# Altium integrated library plxtech.IntLib: 4 symbols
Pins are listed as number, name and electrical type; pins without a type are passive.

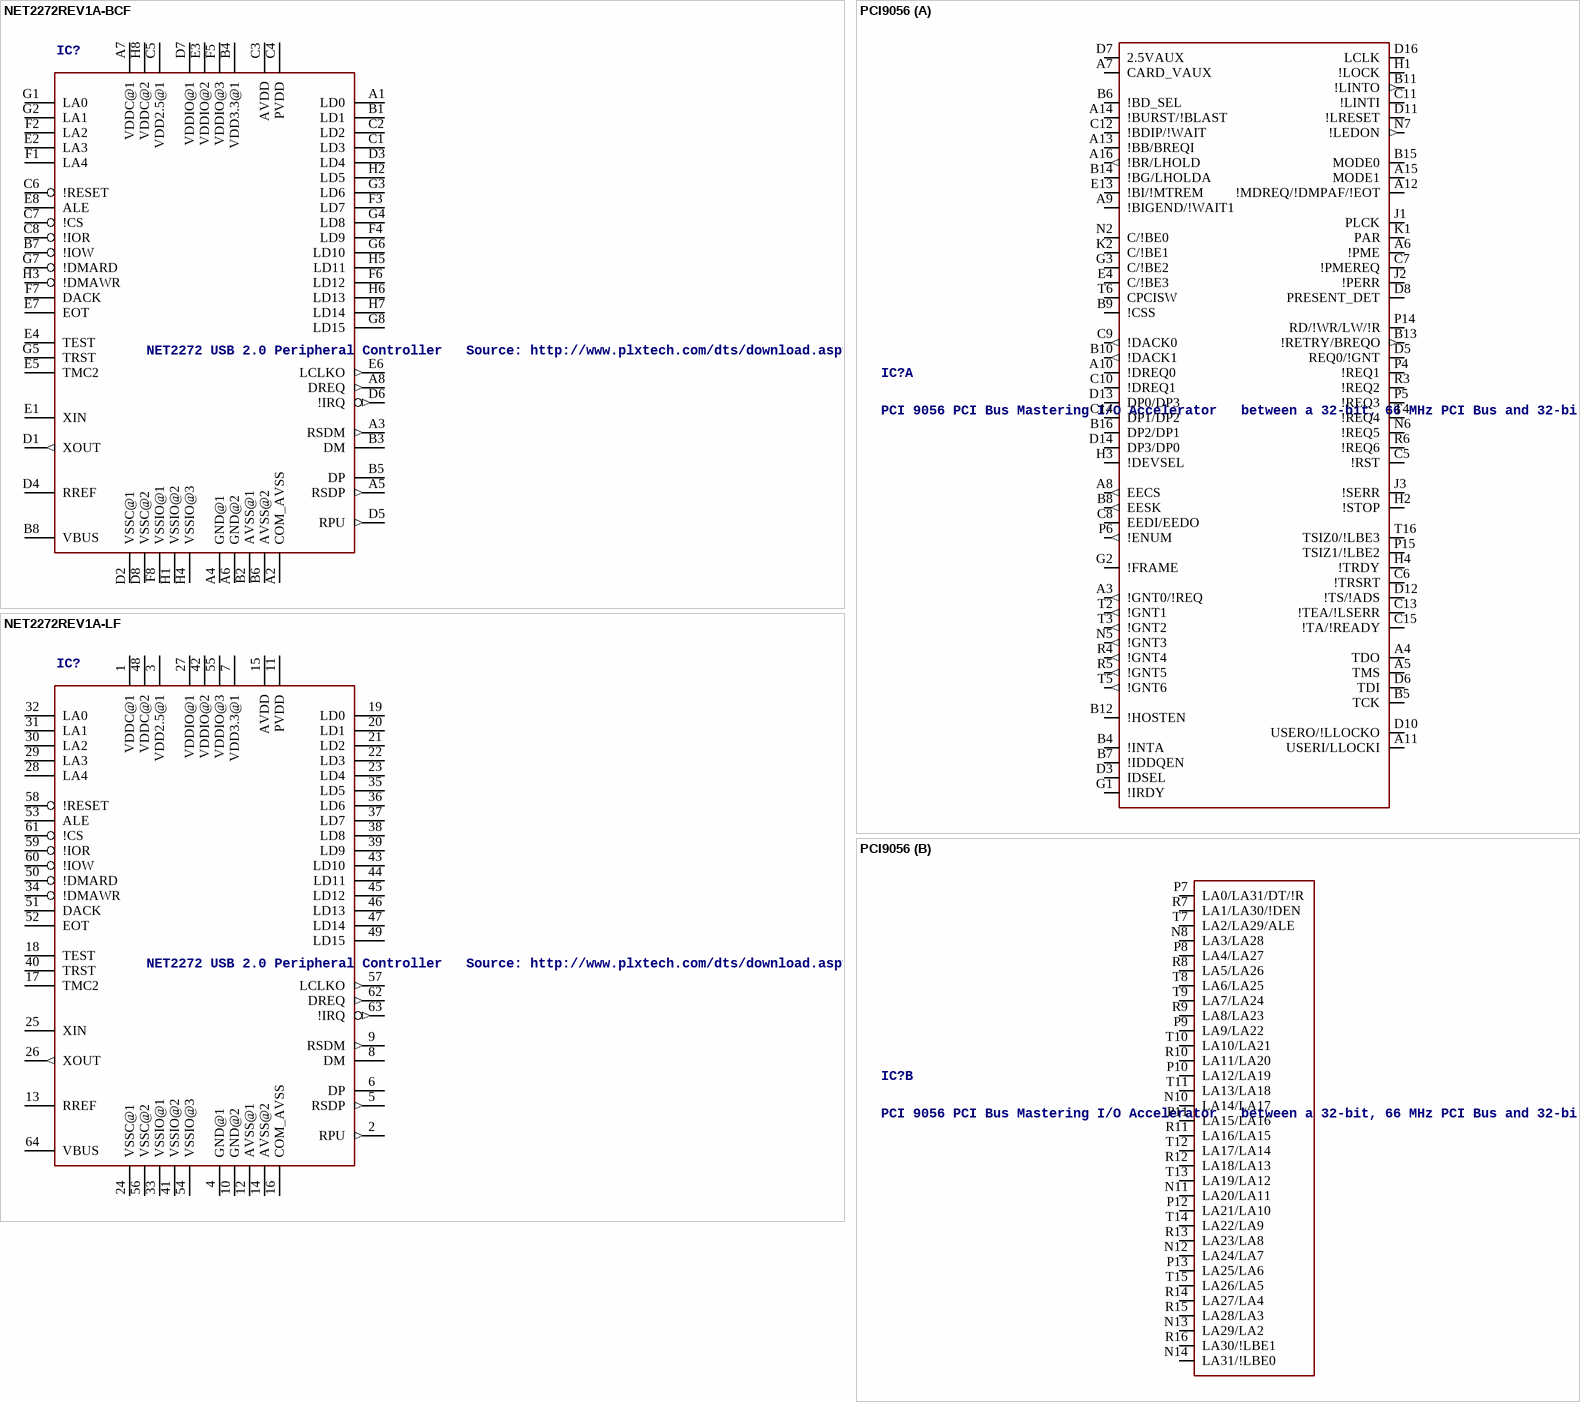
[diagram p0: symbols NET2272REV1A-BCF to PCI9056]

## NET2272REV1A-BCF
designator IC?, comment NET2272 USB 2.0 Peripheral Controller   Source: http://www.plxtech.com/dts/download.asp?f=NET2000/2272/Net2272.spec.re040615.pdf FBGA-Type: http://www1.plxtech.com/TEMP/77131/NET2272r1A_data_book_v1.92_31Oct05.pdf
OC_FARNELL: unknown; OC_NEWARK: unknown
footprint FBGA64
pins: A1 LD0, A2 COM_AVSS (power), A3 RSDM (out), A4 GND@1 (power), A5 RSDP (out), A6 GND@2 (power), A7 VDDC@1 (power), A8 DREQ (out), B1 LD1, B2 AVSS@1 (power), B3 DM, B4 VDD3.3@1 (power), B5 DP, B6 AVSS@2 (power), B7 !IOW, B8 VBUS, C1 LD3, C2 LD2, C3 AVDD (power), C4 PVDD (power), C5 VDD2.5@1 (power), C6 !RESET, C7 !CS, C8 !IOR, D1 XOUT (out), D2 VSSC@1 (power), D3 LD4, D4 RREF, D5 RPU (out), D6 !IRQ (out), D7 VDDIO@1 (power), D8 VSSC@2 (power), E1 XIN, E2 LA3, E3 VDDIO@2 (power), E4 TEST, E5 TMC2, E6 LCLKO (out), E7 EOT, E8 ALE, F1 LA4, F2 LA2, F3 LD7, F4 LD9, F5 VDDIO@3 (power), F6 LD12, F7 DACK, F8 VSSIO@1 (power), G1 LA0, G2 LA1, G3 LD6, G4 LD8, G5 TRST, G6 LD10, G7 !DMARD, G8 LD15, H1 VSSIO@2 (power), H2 LD5, H3 !DMAWR, H4 VSSIO@3 (power), H5 LD11, H6 LD13, H7 LD14, H8 VDDC@2 (power)

## NET2272REV1A-LF
designator IC?, comment NET2272 USB 2.0 Peripheral Controller   Source: http://www.plxtech.com/dts/download.asp?f=NET2000/2272/Net2272.spec.re040615.pdf FBGA-Type: http://www1.plxtech.com/TEMP/77131/NET2272r1A_data_book_v1.92_31Oct05.pdf
MPN: NET2272REV1A-LF; OC_FARNELL: 1623121; OC_NEWARK: 08P1483
footprint TQFP64
pins: 1 VDDC@1 (power), 2 RPU (out), 3 VDD2.5@1 (power), 4 GND@1 (power), 5 RSDP (out), 6 DP, 7 VDD3.3@1 (power), 8 DM, 9 RSDM (out), 10 GND@2 (power), 11 PVDD (power), 12 AVSS@1 (power), 13 RREF, 14 AVSS@2 (power), 15 AVDD (power), 16 COM_AVSS (power), 17 TMC2, 18 TEST, 19 LD0, 20 LD1, 21 LD2, 22 LD3, 23 LD4, 24 VSSC@1 (power), 25 XIN, 26 XOUT (out), 27 VDDIO@1 (power), 28 LA4, 29 LA3, 30 LA2, 31 LA1, 32 LA0, 33 VSSIO@1 (power), 34 !DMAWR, 35 LD5, 36 LD6, 37 LD7, 38 LD8, 39 LD9, 40 TRST, 41 VSSIO@2 (power), 42 VDDIO@2 (power), 43 LD10, 44 LD11, 45 LD12, 46 LD13, 47 LD14, 48 VDDC@2 (power), 49 LD15, 50 !DMARD, 51 DACK, 52 EOT, 53 ALE, 54 VSSIO@3 (power), 55 VDDIO@3 (power), 56 VSSC@2 (power), 57 LCLKO (out), 58 !RESET, 59 !IOR, 60 !IOW, 61 !CS, 62 DREQ (out), 63 !IRQ (out), 64 VBUS

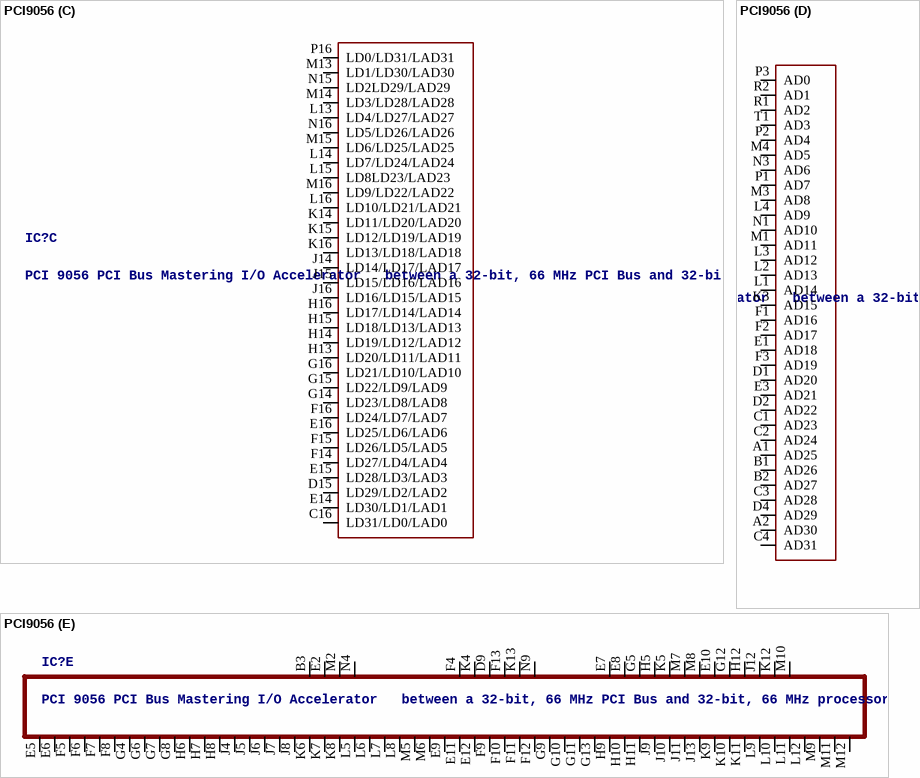
[diagram p1: symbol PCI9056]

## PCI9056
designator IC?, comment PCI 9056 PCI Bus Mastering I/O Accelerator   between a 32-bit, 66 MHz PCI Bus and 32-bit, 66 MHz processor Local Bus Data Book Version 0.91b February 2002 Website: http://www.plxtech.com
OC_FARNELL: 1623124; OC_NEWARK: unknown
footprint PBGA256
part A pins: A3 !GNT0/!REQ (out), A4 TDO, A5 TMS, A6 !PME, A7 CARD_VAUX (power), A8 EECS (out), A9 !BIGEND/!WAIT1, A10 !DREQ0, A11 USERI/LLOCKI, A12 !MDREQ/!DMPAF/!EOT, A13 !BB/BREQI, A14 !BURST/!BLAST, A15 MODE1, A16 !BR/LHOLD (out), B4 !INTA, B5 TCK, B6 !BD_SEL, B7 !IDDQEN, B8 EESK (out), B9 !CSS, B10 !DACK1 (out), B11 !LINTO (out), B12 !HOSTEN, B13 !RETRY/BREQO (out), B14 !BG/LHOLDA, B15 MODE0, B16 DP2/DP1, C5 !RST, C6 !TRSRT, C7 !PMEREQ, C8 EEDI/EEDO, C9 !DACK0 (out), C10 !DREQ1, C11 !LINTI, C12 !BDIP/!WAIT, C13 !TEA/!LSERR, C14 DP1/DP2, C15 !TA/!READY, D3 IDSEL, D5 REQ0/!GNT, D6 TDI, D7 2.5VAUX (power), D8 PRESENT_DET, D10 USERO/!LLOCKO, D11 !LRESET, D12 !TS/!ADS, D13 DP0/DP3, D14 DP3/DP0, D16 LCLK, E4 C/!BE3, E13 !BI/!MTREM, G1 !IRDY, G2 !FRAME, G3 C/!BE2, H1 !LOCK, H2 !STOP, H3 !DEVSEL, H4 !TRDY, J1 PLCK, J2 !PERR, J3 !SERR, K1 PAR, K2 C/!BE1, N2 C/!BE0, N5 !GNT3 (out), N6 !REQ5, N7 !LEDON (out), P4 !REQ1, P5 !REQ3, P6 !ENUM (out), P14 RD/!WR/LW/!R, P15 TSIZ1/!LBE2, R3 !REQ2, R4 !GNT4 (out), R5 !GNT5 (out), R6 !REQ6, T2 !GNT1 (out), T3 !GNT2 (out), T4 !REQ4, T5 !GNT6 (out), T6 CPCISW, T16 TSIZ0/!LBE3
part B pins: N8 LA3/LA28, N10 LA14/LA17, N11 LA20/LA11, N12 LA24/LA7, N13 LA29/LA2, N14 LA31/!LBE0, P7 LA0/LA31/DT/!R, P8 LA4/LA27, P9 LA9/LA22, P10 LA12/LA19, P11 LA15/LA16, P12 LA21/LA10, P13 LA25/LA6, R7 LA1/LA30/!DEN, R8 LA5/LA26, R9 LA8/LA23, R10 LA11/LA20, R11 LA16/LA15, R12 LA18/LA13, R13 LA23/LA8, R14 LA27/LA4, R15 LA28/LA3, R16 LA30/!LBE1, T7 LA2/LA29/ALE, T8 LA6/LA25, T9 LA7/LA24, T10 LA10/LA21, T11 LA13/LA18, T12 LA17/LA14, T13 LA19/LA12, T14 LA22/LA9, T15 LA26/LA5
part C pins: C16 LD31/LD0/LAD0, D15 LD29/LD2/LAD2, E14 LD30/LD1/LAD1, E15 LD28/LD3/LAD3, E16 LD25/LD6/LAD6, F14 LD27/LD4/LAD4, F15 LD26/LD5/LAD5, F16 LD24/LD7/LAD7, G14 LD23/LD8/LAD8, G15 LD22/LD9/LAD9, G16 LD21/LD10/LAD10, H13 LD20/LD11/LAD11, H14 LD19/LD12/LAD12, H15 LD18/LD13/LAD13, H16 LD17/LD14/LAD14, J14 LD14/LD17/LAD17, J15 LD15/LD16/LAD16, J16 LD16/LD15/LAD15, K14 LD11/LD20/LAD20, K15 LD12/LD19/LAD19, K16 LD13/LD18/LAD18, L13 LD4/LD27/LAD27, L14 LD7/LD24/LAD24, L15 LD8LD23/LAD23, L16 LD10/LD21/LAD21, M13 LD1/LD30/LAD30, M14 LD3/LD28/LAD28, M15 LD6/LD25/LAD25, M16 LD9/LD22/LAD22, N15 LD2LD29/LAD29, N16 LD5/LD26/LAD26, P16 LD0/LD31/LAD31
part D pins: A1 AD25, A2 AD30, B1 AD26, B2 AD27, C1 AD23, C2 AD24, C3 AD28, C4 AD31, D1 AD20, D2 AD22, D4 AD29, E1 AD18, E3 AD21, F1 AD16, F2 AD17, F3 AD19, K3 AD15, L1 AD14, L2 AD13, L3 AD12, L4 AD9, M1 AD11, M3 AD8, M4 AD5, N1 AD10, N3 AD6, P1 AD7, P2 AD4, P3 AD0, R1 AD2, R2 AD1, T1 AD3
part E pins: B3 VIO@1 (power), D9 VCORE@3 (power), E2 VIO@2 (power), E5 VSS@1 (power), E6 VSS@2 (power), E7 VRING@1 (power), E8 VRING@2 (power), E9 VSS@28 (power), E10 VRING@8 (power), E11 VSS@29 (power), E12 VSS@30 (power), F4 VCORE@1 (power), F5 VSS@3 (power), F6 VSS@4 (power), F7 VSS@5 (power), F8 VSS@6 (power), F9 VSS@31 (power), F10 VSS@32 (power), F11 VSS@33 (power), F12 VSS@34 (power), F13 VCORE@4 (power), G4 VSS@7 (power), G5 VRING@3 (power), G6 VSS@8 (power), G7 VSS@9 (power), G8 VSS@10 (power), G9 VSS@35 (power), G10 VSS@36 (power), G11 VSS@37 (power), G12 VRING@9 (power), G13 VSS@38 (power), H5 VRING@4 (power), H6 VSS@11 (power), H7 VSS@12 (power), H8 VSS@13 (power), H9 VSS@39 (power), H10 VSS@40 (power), H11 VSS@41 (power), H12 VRING@10 (power), J4 VSS@14 (power), J5 VSS@15 (power), J6 VSS@16 (power), J7 VSS@17 (power), J8 VSS@18 (power), J9 VSS@42 (power), J10 VSS@43 (power), J11 VSS@44 (power), J12 VRING@11 (power), J13 VSS@45 (power), K4 VCORE@2 (power), K5 VRING@5 (power), K6 VSS@19 (power), K7 VSS@20 (power), K8 VSS@21 (power), K9 VSS@46 (power), K10 VSS@47 (power), K11 VSS@48 (power), K12 VRING@12 (power), K13 VCORE@5 (power), L5 VSS@22 (power), L6 VSS@23 (power), L7 VSS@24 (power), L8 VSS@25 (power), L9 VSS@49 (power), L10 VSS@50 (power), L11 VSS@51 (power), L12 VSS@52 (power), M2 VIO@3 (power), M5 VSS@26 (power), M6 VSS@27 (power), M7 VRING@6 (power), M8 VRING@7 (power), M9 VSS@53 (power), M10 VRING@13 (power), M11 VSS@54 (power), M12 VSS@55 (power), N4 VIO@4 (power), N9 VCORE@6 (power)

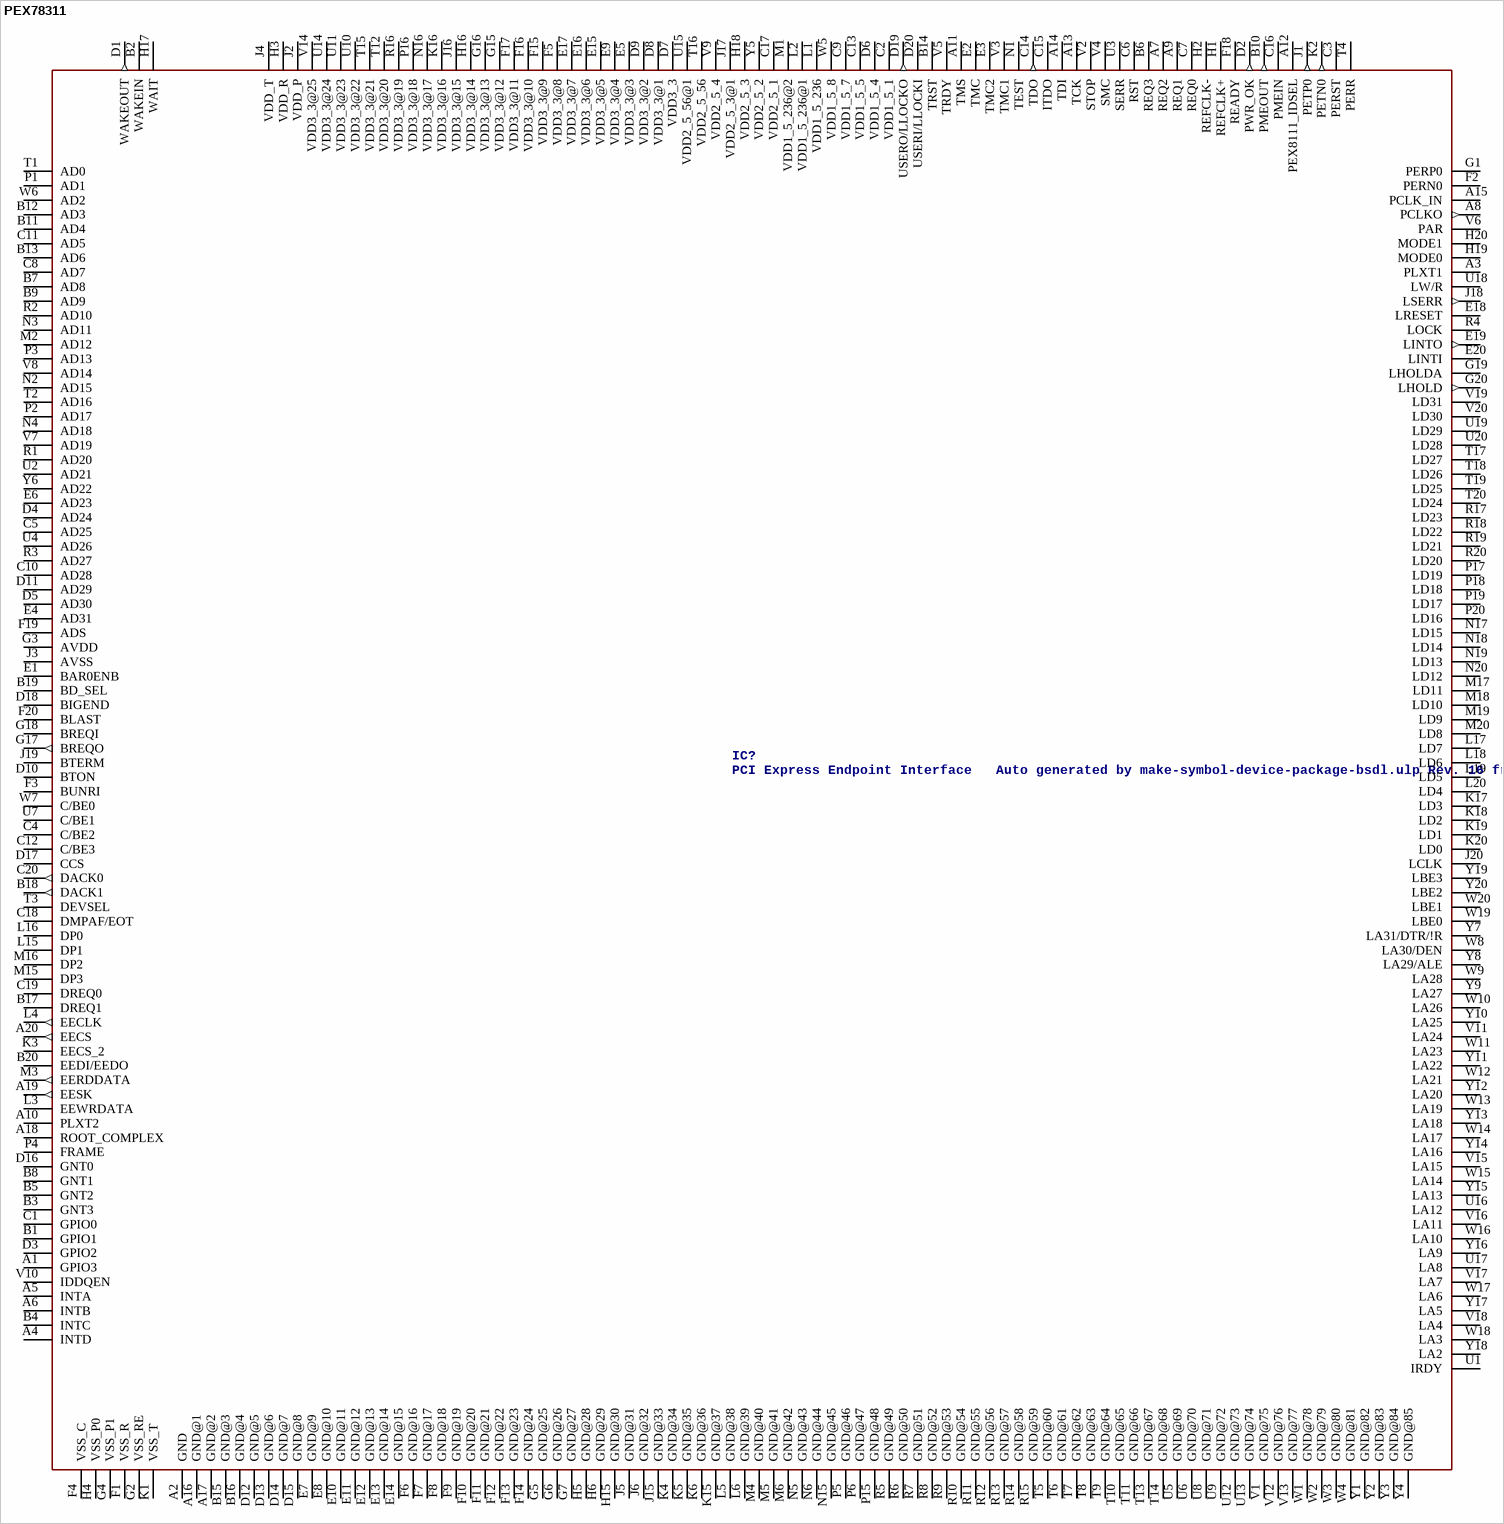
[diagram p2: symbol PEX78311]

## PEX78311
designator IC?, comment PCI Express Endpoint Interface   Auto generated by make-symbol-device-package-bsdl.ulp Rev. 16 from PEX8311_BSDL_netlist_r1.0.dat and manuell corrected Source: PEX_8311AA_Data_Book_v0.90_10Apr06.pdf
OC_FARNELL: unknown; OC_NEWARK: unknown
footprint PBGA337
pins: A1 GPIO3, A2 GND (power), A3 PLXT1, A4 INTD, A5 INTA, A6 INTB, A7 REQ2, A8 PCLKO (out), A9 REQ1, A10 PLXT2, A11 TMS, A12 PEX8111_IDSEL, A13 TCK, A14 TDI, A15 PCLK_IN, A16 GND@1 (power), A17 GND@2 (power), A18 ROOT_COMPLEX, A19 EESK (out), A20 EECS (out), B1 GPIO1, B2 WAKEIN, B3 GNT3, B4 INTC, B5 GNT2, B6 REQ3, B7 AD8, B8 GNT1, B9 AD9, B10 PMEOUT (out), B11 AD4, B12 AD3, B13 AD6, B14 TRST, B15 GND@3 (power), B16 GND@4 (power), B17 DREQ1, B18 DACK1 (out), B19 BD_SEL, B20 EEDI/EEDO, C1 GPIO0, C2 VDD1_5_1 (power), C3 PERST, C4 C/BE2, C5 AD25, C6 RST, C7 REQ0, C8 AD7, C9 VDD1_5_7 (power), C10 AD28, C11 AD5, C12 C/BE3, C13 VDD1_5_5 (power), C14 TDO (out), C15 ITDO, C16 PMEIN, C17 VDD2_5_1 (power), C18 DMPAF/EOT, C19 DREQ0, C20 DACK0 (out), D1 WAKEOUT (out), D2 PWR_OK (out), D3 GPIO2, D4 AD24, D5 AD30, D6 VDD1_5_4 (power), D7 VDD3_3 (power), D8 VDD3_3@1 (power), D9 VDD3_3@2 (power), D10 BTON, D11 AD29, D12 GND@5 (power), D13 GND@6 (power), D14 GND@7 (power), D15 GND@8 (power), D16 GNT0, D17 CCS, D18 BIGEND, D19 USERO/LLOCKO (out), D20 USERI/LLOCKI, E1 BAR0ENB, E2 TMC, E3 TMC2, E4 AD31, E5 VDD3_3@3 (power), E6 AD23, E7 GND@9 (power), E8 GND@10 (power), E9 VDD3_3@4 (power), E10 GND@11 (power), E11 GND@12 (power), E12 GND@13 (power), E13 GND@14 (power), E14 GND@15 (power), E15 VDD3_3@5 (power), E16 VDD3_3@6 (power), E17 VDD3_3@7 (power), E18 LRESET, E19 LINTO (out), E20 LINTI, F1 VSS_R (power), F2 PERN0, F3 BUNRI, F4 VSS_C (power), F5 VDD3_3@8 (power), F6 GND@16 (power), F7 GND@17 (power), F8 GND@18 (power), F9 GND@19 (power), F10 GND@20 (power), F11 GND@21 (power), F12 GND@22 (power), F13 GND@23 (power), F14 GND@24 (power), F15 VDD3_3@9 (power), F16 VDD3_3@10 (power), F17 VDD3_3@11 (power), F18 READY, F19 ADS, F20 BLAST, G1 PERP0, G2 VSS_RE (power), G3 AVDD (power), G4 VSS_P1 (power), G5 GND@25 (power), G6 GND@26 (power), G7 GND@27 (power), G15 VDD3_3@12 (power), G16 VDD3_3@13 (power), G17 BREQO (out), G18 BREQI, G19 LHOLDA, G20 LHOLD (out), H1 REFCLK+, H2 REFCLK-, H3 VDD_R (power), H4 VSS_P0 (power), H5 GND@28 (power), H6 GND@29 (power), H15 GND@30 (power), H16 VDD3_3@14 (power), H17 WAIT, H18 VDD2_5_3 (power), H19 MODE0, H20 MODE1, J1 PETP0 (out), J2 VDD_P (power), J3 AVSS (power), J4 VDD_T (power), J5 GND@31 (power), J6 GND@32 (power), J15 GND@33 (power), J16 VDD3_3@15 (power), J17 VDD2_5_3@1 (power), J18 LSERR (out), J19 BTERM, J20 LCLK, K1 VSS_T (power), K2 PETN0 (out), K3 EECS_2, K4 GND@34 (power), K5 GND@35 (power), K6 GND@36 (power), K15 GND@37 (power), K16 VDD3_3@16 (power), K17 LD3, K18 LD2, K19 LD1, K20 LD0, L1 VDD1_5_236 (power), L2 VDD1_5_236@1 (power), L3 EEWRDATA, L4 EECLK (out), L5 GND@38 (power), L6 GND@39 (power), L15 DP1, L16 DP0, L17 LD7, L18 LD6, L19 LD5, L20 LD4, M1 VDD1_5_236@2 (power), M2 AD12, M3 EERDDATA (out), M4 GND@40 (power), M5 GND@41 (power), M6 GND@42 (power), M15 DP3, M16 DP2, M17 LD11, M18 LD10, M19 LD9, M20 LD8, N1 TEST, N2 AD15, N3 AD11, N4 AD18, N5 GND@43 (power), N6 GND@44 (power), N15 GND@45 (power), N16 VDD3_3@17 (power), N17 LD15, N18 LD14, N19 LD13, N20 LD12, P1 AD1, P2 AD17, P3 AD13, P4 FRAME, P5 GND@46 (power), P6 GND@47 (power), P15 GND@48 (power), P16 VDD3_3@18 (power), P17 LD19, P18 LD18, P19 LD17, P20 LD16, R1 AD20, R2 AD10, R3 AD27, R4 LOCK, R5 GND@49 (power), R6 GND@50 (power), R7 GND@51 (power), R8 GND@52 (power), R9 GND@53 (power), R10 GND@54 (power), R11 GND@55 (power), R12 GND@56 (power), R13 GND@57 (power), R14 GND@58 (power), R15 GND@59 (power), R16 VDD3_3@19 (power), R17 LD23, R18 LD22, R19 LD21, R20 LD20, T1 AD0, T2 AD16, T3 DEVSEL, T4 PERR, T5 GND@60 (power), T6 GND@61 (power), T7 GND@62 (power), T8 GND@63 (power), T9 GND@64 (power), T10 GND@65 (power), T11 GND@66 (power), T12 VDD3_3@20 (power), T13 GND@67 (power), T14 GND@68 (power), T15 VDD3_3@21 (power), T16 VDD2_5_56 (power), T17 LD27, T18 LD26, T19 LD25, T20 LD24, U1 IRDY, U2 AD21, U3 SERR, U4 AD26, U5 GND@69 (power), U6 GND@70 (power), U7 C/BE1, U8 GND@71 (power), U9 GND@72 (power), U10 VDD3_3@22 (power), U11 VDD3_3@23 (power), U12 GND@73 (power), U13 GND@74 (power), U14 VDD3_3@24 (power), U15 VDD2_5_56@1 (power), U16 LA12, U17 LA8, U18 LW/R, U19 LD29, U20 LD28, V1 GND@75 (power), V2 STOP, V3 TMC1, V4 SMC, V5 TRDY, V6 PAR, V7 AD19, V8 AD14, V9 VDD2_5_4 (power), V10 IDDQEN, V11 LA24, V12 GND@76 (power), V13 GND@77 (power), V14 VDD3_3@25 (power), V15 LA15, V16 LA11, V17 LA7, V18 LA4, V19 LD31, V20 LD30, W1 GND@78 (power), W2 GND@79 (power), W3 GND@80 (power), W4 GND@81 (power), W5 VDD1_5_8 (power), W6 AD2, W7 C/BE0, W8 LA30/DEN, W9 LA28, W10 LA26, W11 LA23, W12 LA21, W13 LA19, W14 LA17, W15 LA14, W16 LA10, W17 LA6, W18 LA3, W19 LBE0, W20 LBE1, Y1 GND@82 (power), Y2 GND@83 (power), Y3 GND@84 (power), Y4 GND@85 (power), Y5 VDD2_5_2 (power), Y6 AD22, Y7 LA31/DTR/!R, Y8 LA29/ALE, Y9 LA27, Y10 LA25, Y11 LA22, Y12 LA20, Y13 LA18, Y14 LA16, Y15 LA13, Y16 LA9, Y17 LA5, Y18 LA2, Y19 LBE3, Y20 LBE2